# Altium footprint library BUTTON_SW.PcbLib: 3 footprints
Each footprint in its own frame and in the unit in brackets; x right, y up, seen from the top. Pads: shape width x height; smd on the part's side, far side on the other; paste and mask are expansions set on the pad; w line width, h text height; cw(c..) or ccw(c..) is an arc to the next point about the centre after c.
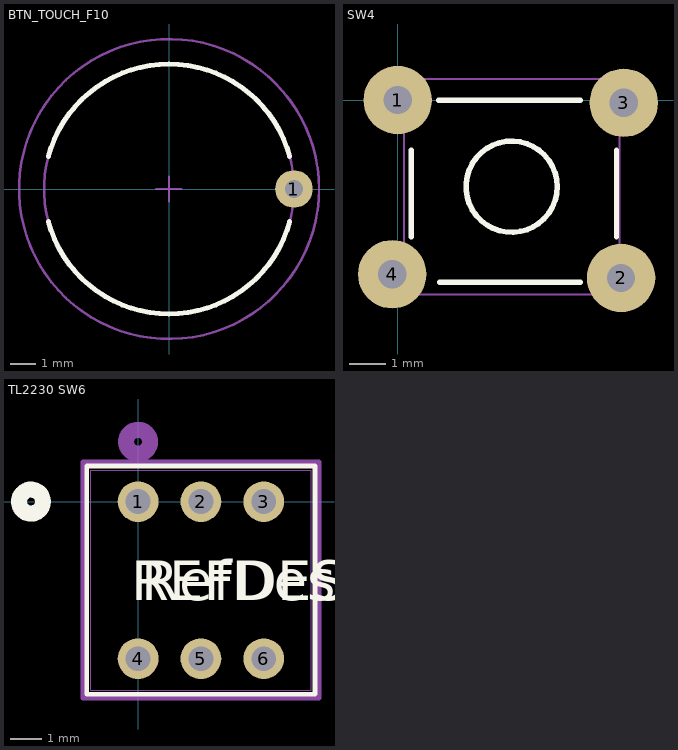
[diagram p0: the footprints below, top view; thin cyan lines are the x and y axes]

## BTN_TOUCH_F10 [mm]
pads (1):
  round 1.5 hole 0.7 mask+0.076: 1(5,0)
Top Overlay:
  lines w0.2: -4.83,-1.294 ccw(c0,0) 4.83,-1.294 ; -4.83,1.294 cw(c0,0) 4.83,1.294
Mechanical 15:
  circle w0.1: c0,0 r6
  lines w0.1: -0.5,0 0.5,0 ; 0,-0.5 0,0.5
Mechanical 29:
  circle w0.1: c0,0 r5
  text "'.Designator'" at -3.88,-0.212 h1.5
3D body "Spring1.step": height 13, standoff 0, extent -5.001,-4.999 5.002,5.001

## SW4 [mil] "SW button 4pin, 250 x250 mil"
height 100
pads (4):
  round 75 hole 31: 1(0,0) 2(245,-195) 3(248,-3) 4(-6,-191)
Top Overlay:
  circle w6: c125,-95 r50
  lines w6: 15,-150 15,-55 ; 45,0 200,0 ; 46,-200 200,-200 ; 240,-150 240,-55
  lines w7: 239,-215 240,-214
Mechanical 15:
  lines w2.01: 6.89,-213.11 243.11,-213.11 243.11,23.11 6.89,23.11 6.89,-213.11
Mechanical 29:
  text "'.Designator'" at -22,-110.01 h60
3D body "SW3dPS-.STEP": height 275.59, standoff -137.8, extent -35.51,-220 275.51,24.1

## TL2230 SW6 [mil]
pads (6):
  round 51 / inner round 60 / far side round 51 hole 31 paste-25.5 mask+0: 1(0,0) 2(78.74,0) 3(157.48,0) 4(0,-196.85) 5(78.74,-196.85) 6(157.48,-196.85)
Top Overlay:
  circle w20: c-134.26,0 r15
  lines w6: -64.26,-241.43 -64.26,44.57 221.74,44.57 221.74,-241.43 -64.26,-241.43
  text "REFDES" at -8.76,-123.43 h50
  text "RefDes" at 3.74,-123.43 h50
Bottom Overlay:
  circle w20: c-134.26,0 r15
Mechanical 15:
  lines w1: -59.26,-236.43 -59.26,39.57 216.74,39.57 216.74,-236.43 -59.26,-236.43
  lines w6: -69.26,-246.43 226.74,-246.43 226.74,49.57 -69.26,49.57 -69.26,-246.43
Mechanical 29:
  circle w20: c0,75 r15
  text "RefDes2" at -8.76,-123.43 h50
3D body "TL2230xxFxxx.stp": height 462.6, standoff -167.32, extent -61.79,-233.8 213.8,41.8